# EAGLE library part IV-4 (library SM-VFD)
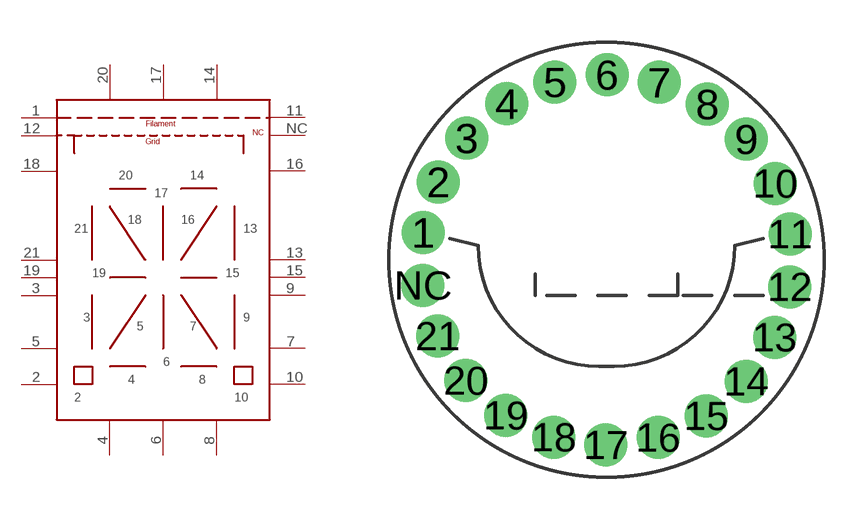
[diagram p0: symbol with the pads of IV-4; footprint IV-4]

Designator prefix -

## IV-4  [IV-4]
1  P$1
2  P$2
3  P$3
4  P$4
5  P$5
6  P$6
7  P$7
8  P$8
9  P$9
10  P$10
11  P$11
12  P$12
13  P$13
14  P$14
15  P$15
16  P$16
17  P$17
18  P$18
19  P$19
20  P$20
21  P$21
NC  P$22

## Footprint IV-4 (pad centres in mm)
drill 1: 1 -6.43,0.95; 2 -5.9,2.72; 3 -4.9,4.27; 4 -3.5,5.48; 5 -1.81,6.24; 6 0.02,6.5; 7 1.85,6.23; 8 3.53,5.46; 9 4.9,4.24; 10 5.92,2.68; 11 6.44,0.9; 12 6.43,-0.95; 13 5.9,-2.72; 14 4.9,-4.27; 15 3.5,-5.48; 16 1.81,-6.24; 17 -0.02,-6.5; 18 -1.85,-6.23; 19 -3.53,-5.46; 20 -4.93,-4.24; 21 -5.92,-2.68; NC -6.44,-0.9